# Altium schematic symbol library AD9744.SchLib: 1 symbol
Pins are listed as number, name and electrical type; pins without a type are passive.

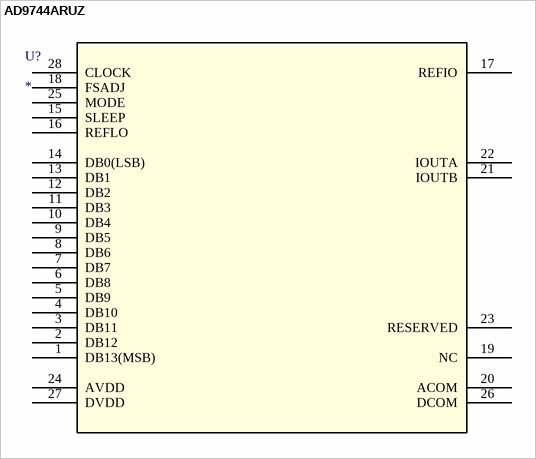
[diagram p0: symbol AD9744ARUZ]

## AD9744ARUZ
designator U?
14-Bit, 210 MSPS TxDAC® D/A Converter; Manufacturer_Part_Number: AD9744ARUZ; Vendor: Vendor; RefDes: RefDes; Type: DEV; Value: Value
footprint RU_28
pins: 1 DB13(MSB), 2 DB12, 3 DB11, 4 DB10, 5 DB9, 6 DB8, 7 DB7, 8 DB6, 9 DB5, 10 DB4, 11 DB3, 12 DB2, 13 DB1, 14 DB0(LSB), 15 SLEEP, 16 REFLO, 17 REFIO, 18 FSADJ, 19 NC, 20 ACOM, 21 IOUTB, 22 IOUTA, 23 RESERVED, 24 AVDD (power), 25 MODE, 26 DCOM, 27 DVDD (power), 28 CLOCK